# EAGLE library part ISO7740FQDBQRQ1 (library ISO7740FQDBQRQ1)
Digital Isolator CMOS 4-CH 100Mbps Automotive 16-Pin SSOP T/R Source: Datasheet <https://www.ti.com/lit/gpn/iso7741-q1>
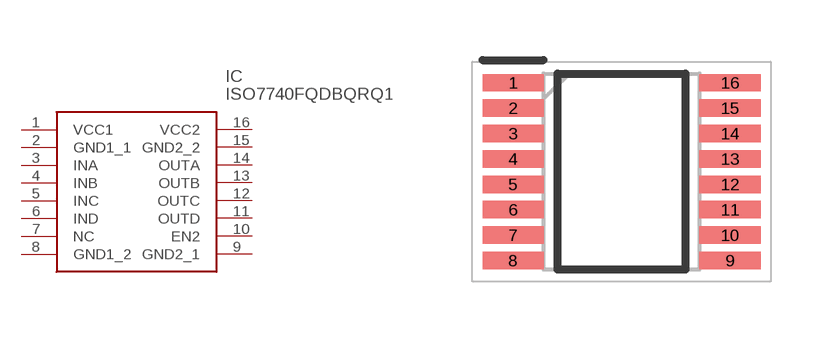
[diagram p0: symbol with the pads of SOP64P600X175-16N; footprint SOP64P600X175-16N]

Designator prefix IC

## ISO7740FQDBQRQ1 (Description: Digital Isolator CMOS 4-CH 100Mbps Automotive 16-Pin SSOP T/R; Height: 1.75mm; Manufacturer_Name: Texas Instruments; Manufacturer_Part_Number: ISO7740FQDBQRQ1; Mouser_Part_Number: 595-ISO7740FQDBQRQ1; Mouser_Price-Stock: https://www.mouser.co.uk/ProductDetail/Texas-Instruments/ISO7740FQDBQRQ1?qs=5aG0NVq1C4z0rUYP%252BlPzPA%3D%3D)  [SOP64P600X175-16N]
1  VCC1
2  GND1_1
3  INA
4  INB
5  INC
6  IND
7  NC  nc
8  GND1_2
9  GND2_1
10  EN2
11  OUTD
12  OUTC
13  OUTB
14  OUTA
15  GND2_2
16  VCC2

## Footprint SOP64P600X175-16N (pad centres in mm)
DBQ0016A
smd 1.528 x 0.435: 1 -2.711,2.222; 2 -2.711,1.588; 3 -2.711,0.952; 4 -2.711,0.318; 5 -2.711,-0.318; 6 -2.711,-0.952; 7 -2.711,-1.588; 8 -2.711,-2.222; 9 2.711,-2.222; 10 2.711,-1.588; 11 2.711,-0.952; 12 2.711,-0.318; 13 2.711,0.318; 14 2.711,0.952; 15 2.711,1.588; 16 2.711,2.222